# Altium footprint library ESD7L5P0DT5G.PcbLib: 3 footprints
Each footprint in its own frame and in the unit in brackets; x right, y up, seen from the top. Pads: shape width x height; smd on the part's side, far side on the other; paste and mask are expansions set on the pad; w line width, h text height; cw(c..) or ccw(c..) is an arc to the next point about the centre after c.
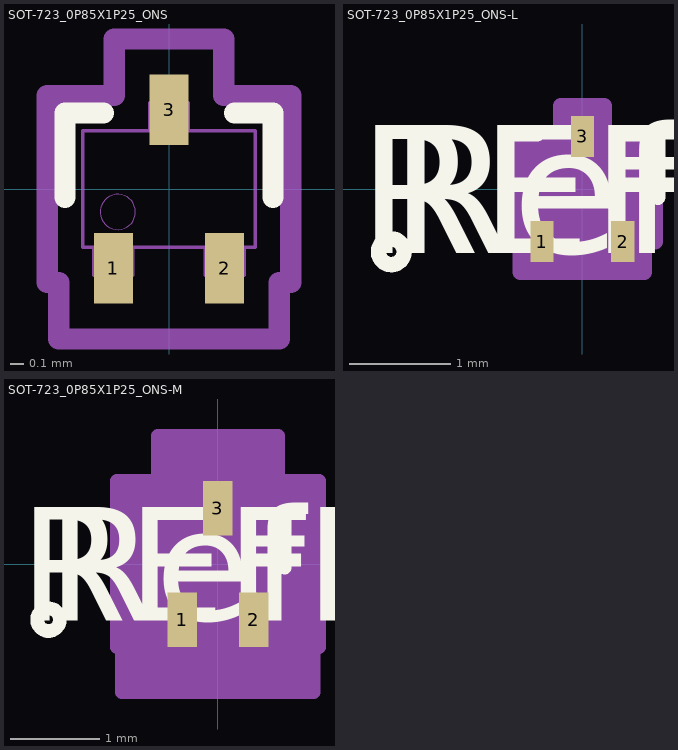
[diagram p0: the footprints below, top view; thin cyan lines are the x and y axes]

## SOT-723_0P85X1P25_ONS [mil]
pads (3):
  rect 11x20 smd paste+0 mask+0: 1(-15.75,-22.5) 2(15.75,-22.5) 3(0,22.5)
Top Overlay:
  lines w6: -29.5,-2.33 -29.5,21.5 -18.6,21.5 ; 18.6,21.5 29.5,21.5 29.5,-2.33
Mechanical 13:
  circle w0: c-14.5,-6.5 r5
  lines w1: -24.5,-16.5 -24.5,16.5 24.5,16.5 24.5,-16.5 -24.5,-16.5 ; -21.25,-24.5 -10.25,-24.5 -10.25,-16.5 -21.25,-16.5 -21.25,-24.5 ; -5.5,16.5 -5.5,24.5 5.5,24.5 5.5,16.5 -5.5,16.5 ; 10.25,-24.5 21.25,-24.5 21.25,-16.5 10.25,-16.5 10.25,-24.5
Mechanical 15:
  lines w6: -34.5,-26.5 -31.25,-26.5 -31.25,-42.5 31.25,-42.5 31.25,-26.5 34.5,-26.5 34.5,26.5 15.5,26.5 15.5,42.5 -15.5,42.5 -15.5,26.5 -34.5,26.5 -34.5,-26.5
3D body "SOT-723_0P85X1P25_ONS.step": height 24.09, standoff 0, extent -24.49,-18.5 24.49,18.5

## SOT-723_0P85X1P25_ONS-L [mil]
pads (3):
  rect 9x16 smd paste+0 mask+0: 1(-15.75,-20.5) 2(15.75,-20.5) 3(0,20.5)
Top Overlay:
  circle w6: c-74.5,-24.5 r5
  lines w6: -29.5,-3.23 -29.5,21.5 -17.6,21.5 ; 17.6,21.5 29.5,21.5 29.5,-3.23
  text "REFDES" at -87.5,-25 h50
  text "RefDes" at -75,-25 h50
Mechanical 13:
  circle w0: c-14.5,-6.5 r5
  lines w1: -24.5,-16.5 24.5,-16.5 24.5,16.5 -24.5,16.5 -24.5,-16.5 ; -21.25,-24.5 -21.25,-16.5 -10.25,-16.5 -10.25,-24.5 -21.25,-24.5 ; -5.5,16.5 5.5,16.5 5.5,24.5 -5.5,24.5 -5.5,16.5 ; 10.25,-24.5 10.25,-16.5 21.25,-16.5 21.25,-24.5 10.25,-24.5
  text "RefDes2" at -87.5,-25 h50
Mechanical 15:
  region: -28.5,-20.5 -28.5,20.5 -9.5,20.5 -9.5,32.5 9.5,32.5 9.5,20.5 28.5,20.5 28.5,-20.5 25.25,-20.5 25.25,-32.5 -25.25,-32.5 -25.25,-20.5
  region: 24.5,-16.5 -24.5,-16.5 -24.5,16.5 24.5,16.5
  lines w6: -28.5,-20.5 -28.5,20.5 -8.5,20.5 -8.5,32.5 8.5,32.5 8.5,20.5 28.5,20.5 28.5,-20.5 24.25,-20.5 24.25,-32.5 -24.25,-32.5 -24.25,-20.5 -28.5,-20.5
3D body "SOT-723_0P85X1P25_ONS.step": height 24.09, standoff 0, extent -24.49,-18.5 24.49,18.5

## SOT-723_0P85X1P25_ONS-M [mil]
pads (3):
  rect 13x24 smd paste+0 mask+0: 1(-15.75,-24.5) 2(15.75,-24.5) 3(0,24.5)
Top Overlay:
  circle w6: c-74.5,-24.5 r5
  lines w6: -29.5,-1.59 -29.5,21.5 ; 29.5,-1.59 29.5,21.5
  text "REFDES" at -87.5,-25 h50
  text "RefDes" at -75,-25 h50
Mechanical 13:
  circle w0: c-14.5,-6.5 r5
  lines w1: -24.5,-16.5 24.5,-16.5 24.5,16.5 -24.5,16.5 -24.5,-16.5 ; -21.25,-24.5 -21.25,-16.5 -10.25,-16.5 -10.25,-24.5 -21.25,-24.5 ; -5.5,16.5 5.5,16.5 5.5,24.5 -5.5,24.5 -5.5,16.5 ; 10.25,-24.5 10.25,-16.5 21.25,-16.5 21.25,-24.5 10.25,-24.5
  text "RefDes2" at -87.5,-25 h50
Mechanical 15:
  region: -44.5,-36.5 -44.5,36.5 -25.5,36.5 -25.5,56.5 25.5,56.5 25.5,36.5 44.5,36.5 44.5,-36.5 41.25,-36.5 41.25,-56.5 -41.25,-56.5 -41.25,-36.5
  region: 24.5,-16.5 -24.5,-16.5 -24.5,16.5 24.5,16.5
  lines w6: -44.5,-36.5 -44.5,36.5 -26.5,36.5 -26.5,56.5 26.5,56.5 26.5,36.5 44.5,36.5 44.5,-36.5 42.25,-36.5 42.25,-56.5 -42.25,-56.5 -42.25,-36.5 -44.5,-36.5
3D body "SOT-723_0P85X1P25_ONS.step": height 24.09, standoff 0, extent -24.49,-18.5 24.49,18.5